# EAGLE library part LAN7800 (library Microchip)
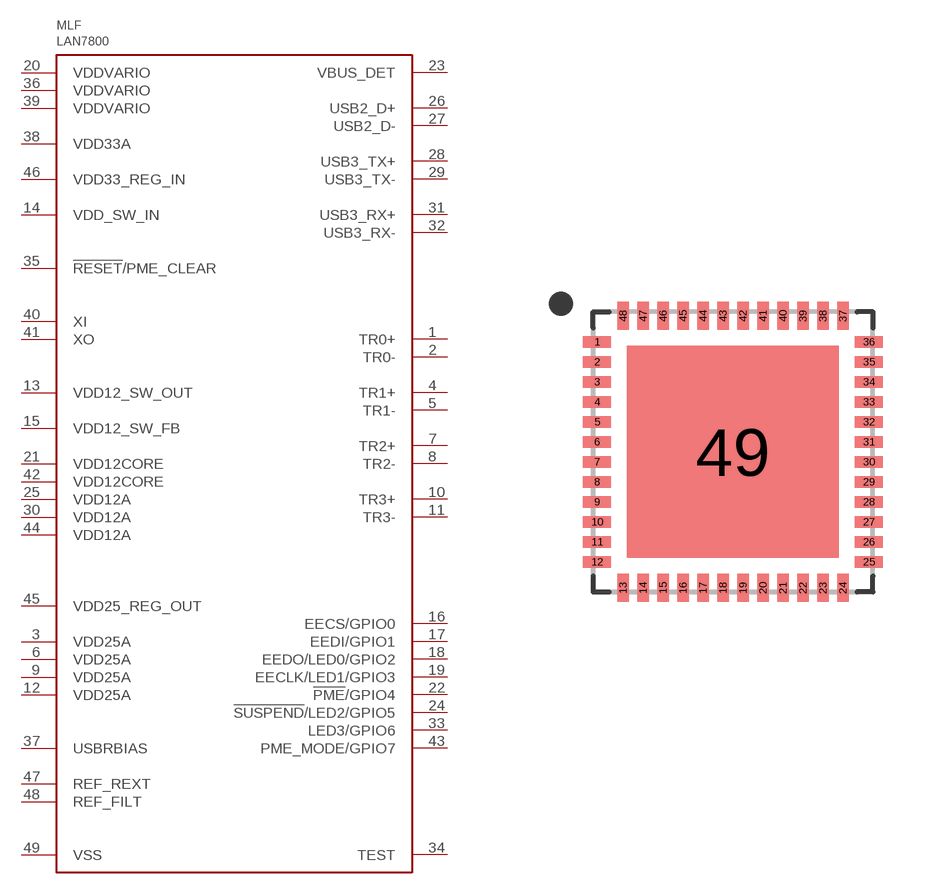
[diagram p38: symbol with the pads of SQFN48; footprint SQFN48]

Designator prefix MLF

## LAN7800-Y9X  [SQFN48]
1  TR0+
2  TR0-
3  VDD25A  pwr
4  TR1+
5  TR1-
6  VDD25A  pwr
7  TR2+
8  TR2-
9  VDD25A  pwr
10  TR3+
11  TR3-
12  VDD25A  pwr
13  VDD12_SW_OUT  pwr
14  VDD_SW_IN  pwr
15  VDD12_SW_FB  pwr
16  EECS/GPIO0
17  EEDI/GPIO1
18  EEDO/LED0/GPIO2
19  EECLK/LED1/GPIO3
20  VDDVARIO  pwr
21  VDD12CORE  pwr
22  !PME!/GPIO4
23  VBUS_DET
24  !SUSPEND!/LED2/GPIO5
25  VDD12A  pwr
26  USB2_D+
27  USB2_D-
28  USB3_TX+
29  USB3_TX-
30  VDD12A  pwr
31  USB3_RX+
32  USB3_RX-
33  LED3/GPIO6
34  TEST
35  !RESET!/PME_CLEAR
36  VDDVARIO  pwr
37  USBRBIAS
38  VDD33A  pwr
39  VDDVARIO  pwr
40  XI
41  XO
42  VDD12CORE  pwr
43  PME_MODE/GPIO7
44  VDD12A  pwr
45  VDD25_REG_OUT  pwr
46  VDD33_REG_IN  pwr
47  REF_REXT
48  REF_FILT
49  VSS  pwr

## Footprint SQFN48 (pad centres in mm)
smd 0.7 x 0.28: 1 -3.4,2.75; 2 -3.4,2.25; 3 -3.4,1.75; 4 -3.4,1.25; 5 -3.4,0.75; 6 -3.4,0.25; 7 -3.4,-0.25; 8 -3.4,-0.75; 9 -3.4,-1.25; 10 -3.4,-1.75; 11 -3.4,-2.25; 12 -3.4,-2.75; 25 3.4,-2.75; 26 3.4,-2.25; 27 3.4,-1.75; 28 3.4,-1.25; 29 3.4,-0.75; 30 3.4,-0.25; 31 3.4,0.25; 32 3.4,0.75; 33 3.4,1.25; 34 3.4,1.75; 35 3.4,2.25; 36 3.4,2.75
smd 0.28 x 0.7: 13 -2.75,-3.4; 14 -2.25,-3.4; 15 -1.75,-3.4; 16 -1.25,-3.4; 17 -0.75,-3.4; 18 -0.25,-3.4; 19 0.25,-3.4; 20 0.75,-3.4; 21 1.25,-3.4; 22 1.75,-3.4; 23 2.25,-3.4; 24 2.75,-3.4; 37 2.75,3.4; 38 2.25,3.4; 39 1.75,3.4; 40 1.25,3.4; 41 0.75,3.4; 42 0.25,3.4; 43 -0.25,3.4; 44 -0.75,3.4; 45 -1.25,3.4; 46 -1.75,3.4; 47 -2.25,3.4; 48 -2.75,3.4
smd 5.3 x 5.3: 49 0,0